# Altium schematic symbol library 28PIN.SchLib: 1 symbol
Pins are listed as number, name and electrical type; pins without a type are passive.

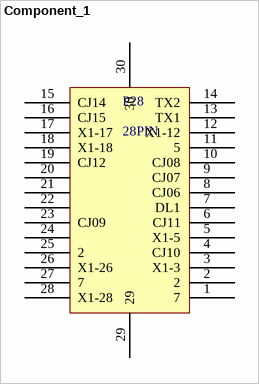
[diagram p0: symbol Component_1]

## Component_1
designator P28, comment 28PIN
pins: 1 7, 2, 3 X1-3, 4 CJ10, 5 X1-5, 6 CJ11, 7 DL1, 8 CJ06, 9 CJ07, 10 CJ08, 11 5, 12 X1-12, 13 TX1, 14 TX2, 15 CJ14, 16 CJ15, 17 X1-17, 18 X1-18, 19 CJ12, 20, 21, 22, 23 CJ09, 24, 25 2, 26 X1-26, 27 7, 28 X1-28, 29, 30